# Altium schematic symbol library ESP32-C3-WROOM-02-H4.SchLib: 2 symbols
Pins are listed as number, name and electrical type; pins without a type are passive.

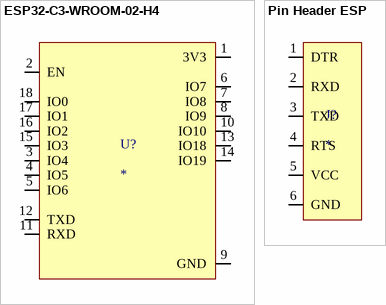
[diagram p0: symbols ESP32-C3-WROOM-02-H4 to Pin Header ESP]

## ESP32-C3-WROOM-02-H4
designator U?
WiFi Modules (802.11) (Engineering Samples) SMD module, ESP32-C3, 4MB SPI flash, PCB antenna, -40 C +105 C; MP: ESP32-C3-WROOM-02-H4; MF: Espressif Systems; Package: Package; Purchase-URL: https://pricing.snapeda.com/search/part/ESP32-C3-WROOM-02-H4/?ref=eda; Check_prices: https://www.snapeda.com/parts/ESP32-C3-WROOM-02-H4/Espressif+Systems/view-part/?ref=eda; SnapEDA_Link: https://www.snapeda.com/parts/ESP32-C3-WROOM-02-H4/Espressif+Systems/view-part/?ref=snap; Price: None; Availability: In Stock; Value: *
footprint MODULE_ESP32-C3-WROOM-02-H4
pins: 1 3V3, 2 EN, 3 IO4, 4 IO5, 5 IO6, 6 IO7, 7 IO8, 8 IO9, 9 GND, 10 IO10, 11 RXD, 12 TXD, 13 IO18, 14 IO19, 15 IO3, 16 IO2, 17 IO1, 18 IO0

## Pin Header ESP
designator J?
footprint SAMTEC_TSW-112-16-T-S-06
pins: 1 DTR, 2 RXD, 3 TXD, 4 RTS, 5 VCC, 6 GND